# EAGLE library part 535512-22 (library con-tyco-modu)
RECEPTACAL
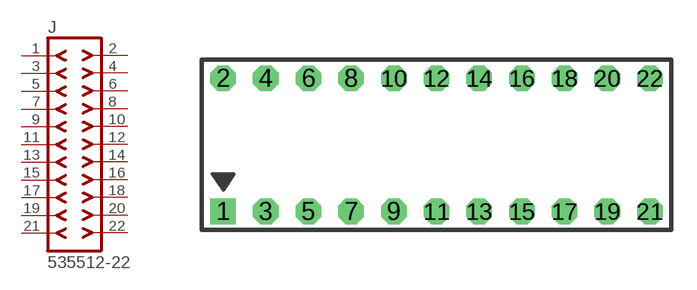
[diagram p27: symbol with the pads of 535512-22; footprint 535512-22]

Designator prefix J

## 535512-22  [535512-22]
1  1  pas
2  2  pas
3  3  pas
4  4  pas
5  5  pas
6  6  pas
7  7  pas
8  8  pas
9  9  pas
10  10  pas
11  11  pas
12  12  pas
13  13  pas
14  14  pas
15  15  pas
16  16  pas
17  17  pas
18  18  pas
19  19  pas
20  20  pas
21  21  pas
22  22  pas

## Footprint 535512-22 (pad centres in mm)
AMPMODU - 535512 Series
drill 1.016 square: 1 -12.7,0
drill 1.016 octagon: 2 -12.7,7.938; 3 -10.16,0; 4 -10.16,7.938; 5 -7.62,0; 6 -7.62,7.938; 7 -5.08,0; 8 -5.08,7.938; 9 -2.54,0; 10 -2.54,7.938; 11 0,0; 12 0,7.938; 13 2.54,0; 14 2.54,7.938; 15 5.08,0; 16 5.08,7.938; 17 7.62,0; 18 7.62,7.938; 19 10.16,0; 20 10.16,7.938; 21 12.7,0; 22 12.7,7.938